# Altium schematic symbol library Light Board.SCHLIB: 3 symbols
Pins are listed as number, name and electrical type; pins without a type are passive.

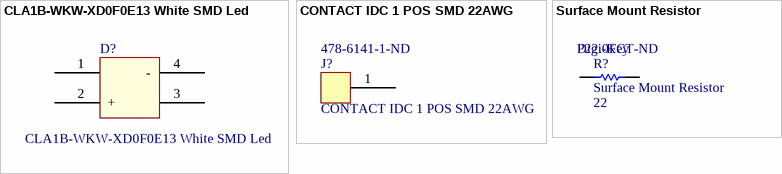
[diagram p0: symbols CLA1B-WKW-XD0F0E13 White SMD Led to Surface Mount Resistor]

## CLA1B-WKW-XD0F0E13 White SMD Led
designator D?
Supplier 1: Digi-Key; Supplier Part Number 1: CLA1B-WKW-XD0F0E33CT-ND
footprint CLA1B-WKW-XD0F0E13 White SMD Led
pins: 1 5, 2 +, 3, 4 -

## CONTACT IDC 1 POS SMD 22AWG
designator J?  Supplier Part Number 1: 478-6141-1-ND
Supplier 1: Digi-Key
footprint CONTACT IDC 1 POS SMD 22AWG
pins: 1

## Surface Mount Resistor
designator R?  value 22  Supplier 1: Digi-Key  Supplier Part Number 1: P22.0FCT-ND
Resistor; Published: 8-Jun-2000; LatestRevisionDate: 17-Jul-2002; LatestRevisionNote: Re-released for DXP Platform.; PackageReference: AXIAL-0.3; Publisher: Altium Limited; PackageDescription: Axial Device, Thru-Hole; 2 Leads; 0.3 in Pin Spacing
simulation model RESISTOR (Resistor)
signal-integrity model Res
footprint 8-1206 (Chip Resistor; Body 3.1 x 1.6 mm (LxW typ))
pins: 1, 2